# Altium schematic symbol library SN74LVC1T45DBVR.Schlib: 1 symbol
Pins are listed as number, name and electrical type; pins without a type are passive.

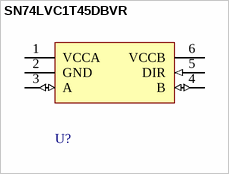
[diagram p0: symbol SN74LVC1T45DBVR]

## SN74LVC1T45DBVR
designator U?
Single-bit dual-supply bus transceiver with configurable voltage translation and 3-state outputs
pins: 1 VCCA (power), 2 GND (power), 3 A (io), 4 B (io), 5 DIR (in), 6 VCCB (power)